# Altium schematic symbol library 48037-0001.SchLib: 1 symbol
Pins are listed as number, name and electrical type; pins without a type are passive.

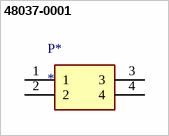
[diagram p0: symbol 48037-0001]

## 48037-0001
designator P*
USB Connector, USB Type A, USB 2.0, Plug, 4 Ways, Through Hole Mount, Right Angle
pins: 1, 2, 3, 4